# EAGLE library part 702461401 (library 473)
A connector for TI JTAG 14 built into the MSP430 chipset.
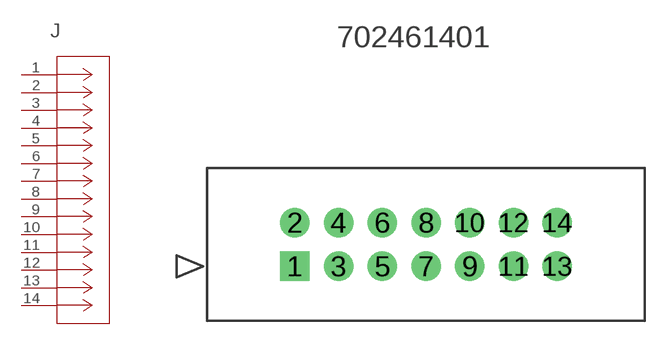
[diagram p7: symbol with the pads of CON_702461401_MOL; footprint CON_702461401_MOL]

Designator prefix J

## 702461401 (COPYRIGHT: Copyright (C) 2022 Ultra Librarian. All rights reserved.; MANUFACTURER_PART_NUMBER: 702461401; MFR_NAME: Molex Connector Corporation)  [CON_702461401_MOL]
1  1  pas
2  2  pas
3  3  pas
4  4  pas
5  5  pas
6  6  pas
7  7  pas
8  8  pas
9  9  pas
10  10  pas
11  11  pas
12  12  pas
13  13  pas
14  14  pas

## Footprint CON_702461401_MOL (pad centres in mm)
drill 1.143 pad 1.499 square: 1 0,0
drill 1.143 pad 1.499: 2 0,2.54; 3 2.54,0; 4 2.54,2.54; 5 5.08,0; 6 5.08,2.54; 7 7.62,0; 8 7.62,2.54; 9 10.16,0; 10 10.16,2.54; 11 12.7,0; 12 12.7,2.54; 13 15.24,0; 14 15.24,2.54